# Altium integrated library Microchip Motor Driver.IntLib: 8 symbols
Pins are listed as number, name and electrical type; pins without a type are passive.

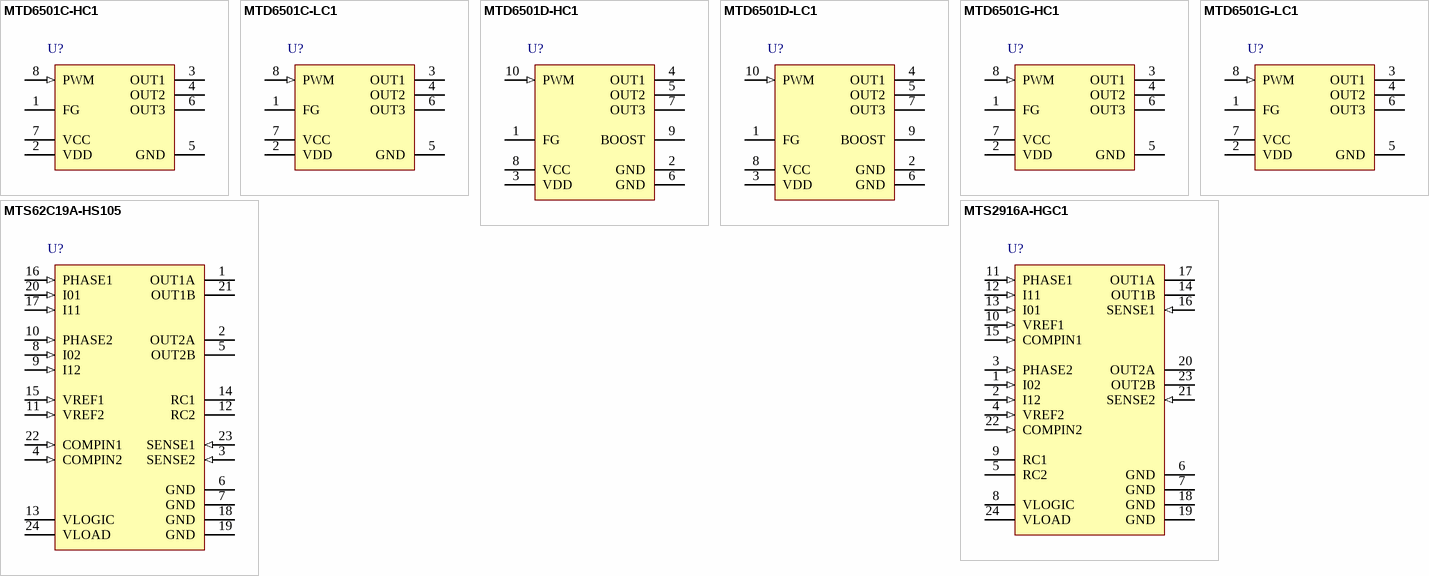
[diagram p0: symbols MTD6501C-HC1 to MTS2916A-HGC1]

## MTD6501C-HC1
designator U?
3-Phase Brushless DC Sinusoidal Sensorless Fan Motor Driver, MOSFET Output, 2 to 14 V, 8-pin SOP (SE8), Tube; Manufacturer: Microchip; PartNumber: MTD6501C-HC1; DatasheetVersion: Rev. B; PackageVersion: C04-121A; PackageReference: SOP-SE8; PackageDescription: 8-Lead Thermally Enhanced Plastic Small Outline, 4.9 x 3.9 mm Body, 1.27 mm Pitch; Supplier 1: Digi-Key; Supplier Part Number 1: MTD6501C-HC1-ND; Supplier 2: Newark; Supplier Part Number 2: 13T4434; Supplier 3: Mouser; Supplier Part Number 3: 579-MTD6501C-HC1; Mounting Technology: Surface Mount; ComponentLink1Description: Manufacturer URL; ComponentLink1URL: http://www.microchip.com; ComponentLink2Description: Datasheet; ComponentLink2URL: http://ww1.microchip.com/downloads/en/DeviceDoc/22263B.pdf; ComponentLink3Description: Package Specification; ComponentLink3URL: http://www.microchip.com/stellent/groups/techpub_sg/documents/packagingspec/en012702.pdf; ComponentLink4Description: Product URL; ComponentLink4URL: http://www.microchip.com/MTD6501C
footprint MCHP-SOP-SE8_N (SOP, 8-Leads, Body 4.9x3.9mm, Pitch 1.27mm, Thermal Pad 2.29x2.29mm, IPC Medium Density)
footprint MCHP-SOP-SE8_L (SOP, 8-Leads, Body 4.9x3.9mm, Pitch 1.27mm, Thermal Pad 2.29x2.29mm, IPC High Density)
footprint MCHP-SOP-SE8_M (SOP, 8-Leads, Body 4.9x3.9mm, Pitch 1.27mm, Thermal Pad 2.29x2.29mm, IPC Low Density)
pins: 1 FG (hiz) "Motor speed indication output", 2 VDD (power) "Internal regulator output (for decoupling only)", 3 OUT1 (hiz) "Single-phase coil output pin", 4 OUT2 (hiz) "Single-phase coil output pin", 5 GND (power) "Negative voltage supply (ground)", 6 OUT3 (hiz) "Single-phase coil output pin", 7 VCC (power) "Positive voltage supply for motor driver", 8 PWM (in) "PWM input signal for speed control"

## MTD6501C-LC1
designator U?
3-Phase Brushless DC Sinusoidal Sensorless Fan Motor Driver, MOSFET Output, 2 to 14 V, 8-pin SOP (SE8), Tape and Reel; Manufacturer: Microchip; PartNumber: MTD6501C-LC1; DatasheetVersion: Rev. B; PackageVersion: C04-121A; PackageReference: SOP-SE8; PackageDescription: 8-Lead Thermally Enhanced Plastic Small Outline, 4.9 x 3.9 mm Body, 1.27 mm Pitch; Supplier 1: Digi-Key; Supplier Part Number 1: MTD6501C-LC1-ND; Supplier 2: Newark; Supplier Part Number 2: 13T4435; Supplier 3: Mouser; Supplier Part Number 3: 579-MTD6501C-LC1; Mounting Technology: Surface Mount; ComponentLink1Description: Manufacturer URL; ComponentLink1URL: http://www.microchip.com; ComponentLink2Description: Datasheet; ComponentLink2URL: http://ww1.microchip.com/downloads/en/DeviceDoc/22263B.pdf; ComponentLink3Description: Package Specification; ComponentLink3URL: http://www.microchip.com/stellent/groups/techpub_sg/documents/packagingspec/en012702.pdf; ComponentLink4Description: Product URL; ComponentLink4URL: http://www.microchip.com/MTD6501C
footprint MCHP-SOP-SE8_N (SOP, 8-Leads, Body 4.9x3.9mm, Pitch 1.27mm, Thermal Pad 2.29x2.29mm, IPC Medium Density)
footprint MCHP-SOP-SE8_L (SOP, 8-Leads, Body 4.9x3.9mm, Pitch 1.27mm, Thermal Pad 2.29x2.29mm, IPC High Density)
footprint MCHP-SOP-SE8_M (SOP, 8-Leads, Body 4.9x3.9mm, Pitch 1.27mm, Thermal Pad 2.29x2.29mm, IPC Low Density)
pins: 1 FG (hiz) "Motor speed indication output", 2 VDD (power) "Internal regulator output (for decoupling only)", 3 OUT1 (hiz) "Single-phase coil output pin", 4 OUT2 (hiz) "Single-phase coil output pin", 5 GND (power) "Negative voltage supply (ground)", 6 OUT3 (hiz) "Single-phase coil output pin", 7 VCC (power) "Positive voltage supply for motor driver", 8 PWM (in) "PWM input signal for speed control"

## MTD6501D-HC1
designator U?
3-Phase Brushless DC Sinusoidal Sensorless Fan Motor Driver, MOSFET Output, 2 to 14 V, 10-pin MSOP (MS10), Tube; Manufacturer: Microchip; PartNumber: MTD6501D-HC1; DatasheetVersion: Rev. B; PackageVersion: C04-021C; PackageReference: MSOP-MS10; PackageDescription: 10-Lead Plastic Micro Small Outline Package, 3 x 3 mm Body, 0.5 mm Pitch; Supplier 1: Digi-Key; Supplier Part Number 1: MTD6501D-HC1-ND; Supplier 2: Newark; Supplier Part Number 2: 13T4436; Supplier 3: Mouser; Supplier Part Number 3: 579-MTD6501D-HC1; Mounting Technology: Surface Mount; ComponentLink1Description: Manufacturer URL; ComponentLink1URL: http://www.microchip.com; ComponentLink2Description: Datasheet; ComponentLink2URL: http://ww1.microchip.com/downloads/en/DeviceDoc/22263B.pdf; ComponentLink3Description: Package Specification; ComponentLink3URL: http://www.microchip.com/stellent/groups/techpub_sg/documents/packagingspec/en012702.pdf; ComponentLink4Description: Product URL; ComponentLink4URL: http://www.microchip.com/MTD6501D
footprint MCHP-MSOP-MS10_N (SOP, 10-Leads, Body 3x3mm, Pitch 0.5mm, IPC Medium Density)
footprint MCHP-MSOP-MS10_L (SOP, 10-Leads, Body 3x3mm, Pitch 0.5mm, IPC High Density)
footprint MCHP-MSOP-MS10_M (SOP, 10-Leads, Body 3x3mm, Pitch 0.5mm, IPC Low Density)
pins: 1 FG (hiz) "Motor speed indication output", 2 GND (power) "Negative voltage supply (ground)", 3 VDD (power) "Internal regulator output (for decoupling only)", 4 OUT1 (hiz) "Single-phase coil output pin", 5 OUT2 (hiz) "Single-phase coil output pin", 6 GND (power) "Negative voltage supply (ground)", 7 OUT3 (hiz) "Single-phase coil output pin", 8 VCC (power) "Positive voltage supply for motor driver", 9 BOOST "Boost mode selection: Pin floating for Normal mode; Pin tied to GND for Boost mode", 10 PWM (in) "PWM input signal for speed control"

## MTD6501D-LC1
designator U?
3-Phase Brushless DC Sinusoidal Sensorless Fan Motor Driver, MOSFET Output, 2 to 14 V, 10-pin MSOP (MS10), Tape and Reel; Manufacturer: Microchip; PartNumber: MTD6501D-LC1; DatasheetVersion: Rev. B; PackageVersion: C04-021C; PackageReference: MSOP-MS10; PackageDescription: 10-Lead Plastic Micro Small Outline Package, 3 x 3 mm Body, 0.5 mm Pitch; Supplier 1: Digi-Key; Supplier Part Number 1: MTD6501D-LC1-ND; Supplier 2: Newark; Supplier Part Number 2: 13T4437; Supplier 3: Mouser; Supplier Part Number 3: 579-MTD6501D-LC1; Mounting Technology: Surface Mount; ComponentLink1Description: Manufacturer URL; ComponentLink1URL: http://www.microchip.com; ComponentLink2Description: Datasheet; ComponentLink2URL: http://ww1.microchip.com/downloads/en/DeviceDoc/22263B.pdf; ComponentLink3Description: Package Specification; ComponentLink3URL: http://www.microchip.com/stellent/groups/techpub_sg/documents/packagingspec/en012702.pdf; ComponentLink4Description: Product URL; ComponentLink4URL: http://www.microchip.com/MTD6501D
footprint MCHP-MSOP-MS10_N (SOP, 10-Leads, Body 3x3mm, Pitch 0.5mm, IPC Medium Density)
footprint MCHP-MSOP-MS10_L (SOP, 10-Leads, Body 3x3mm, Pitch 0.5mm, IPC High Density)
footprint MCHP-MSOP-MS10_M (SOP, 10-Leads, Body 3x3mm, Pitch 0.5mm, IPC Low Density)
pins: 1 FG (hiz) "Motor speed indication output", 2 GND (power) "Negative voltage supply (ground)", 3 VDD (power) "Internal regulator output (for decoupling only)", 4 OUT1 (hiz) "Single-phase coil output pin", 5 OUT2 (hiz) "Single-phase coil output pin", 6 GND (power) "Negative voltage supply (ground)", 7 OUT3 (hiz) "Single-phase coil output pin", 8 VCC (power) "Positive voltage supply for motor driver", 9 BOOST "Boost mode selection: Pin floating for Normal mode; Pin tied to GND for Boost mode", 10 PWM (in) "PWM input signal for speed control"

## MTD6501G-HC1
designator U?
3-Phase Brushless DC Sinusoidal Sensorless Fan Motor Driver, MOSFET Output, 2 to 14 V, 8-pin SOP (SE8), Tube; Manufacturer: Microchip; PartNumber: MTD6501G-HC1; DatasheetVersion: Rev. B; PackageVersion: C04-121A; PackageReference: SOP-SE8; PackageDescription: 8-Lead Thermally Enhanced Plastic Small Outline, 4.9 x 3.9 mm Body, 1.27 mm Pitch; Supplier 1: Digi-Key; Supplier Part Number 1: MTD6501G-HC1-ND; Supplier 2: Newark; Supplier Part Number 2: 90T8704; Supplier 3: Mouser; Supplier Part Number 3: 579-MTD6501G-HC1; Mounting Technology: Surface Mount; ComponentLink1Description: Manufacturer URL; ComponentLink1URL: http://www.microchip.com; ComponentLink2Description: Datasheet; ComponentLink2URL: http://ww1.microchip.com/downloads/en/DeviceDoc/22263B.pdf; ComponentLink3Description: Package Specification; ComponentLink3URL: http://www.microchip.com/stellent/groups/techpub_sg/documents/packagingspec/en012702.pdf; ComponentLink4Description: Product URL; ComponentLink4URL: http://www.microchip.com/MTD6501G
footprint MCHP-SOP-SE8_N (SOP, 8-Leads, Body 4.9x3.9mm, Pitch 1.27mm, Thermal Pad 2.29x2.29mm, IPC Medium Density)
footprint MCHP-SOP-SE8_L (SOP, 8-Leads, Body 4.9x3.9mm, Pitch 1.27mm, Thermal Pad 2.29x2.29mm, IPC High Density)
footprint MCHP-SOP-SE8_M (SOP, 8-Leads, Body 4.9x3.9mm, Pitch 1.27mm, Thermal Pad 2.29x2.29mm, IPC Low Density)
pins: 1 FG (hiz) "Motor speed indication output", 2 VDD (power) "Internal regulator output (for decoupling only)", 3 OUT1 (hiz) "Single-phase coil output pin", 4 OUT2 (hiz) "Single-phase coil output pin", 5 GND (power) "Negative voltage supply (ground)", 6 OUT3 (hiz) "Single-phase coil output pin", 7 VCC (power) "Positive voltage supply for motor driver", 8 PWM (in) "PWM input signal for speed control"

## MTD6501G-LC1
designator U?
3-Phase Brushless DC Sinusoidal Sensorless Fan Motor Driver, MOSFET Output, 2 to 14 V, 8-pin SOP (SE8), Tape and Reel; Manufacturer: Microchip; PartNumber: MTD6501G-LC1; DatasheetVersion: Rev. B; PackageVersion: C04-121A; PackageReference: SOP-SE8; PackageDescription: 8-Lead Thermally Enhanced Plastic Small Outline, 4.9 x 3.9 mm Body, 1.27 mm Pitch; Supplier 1: Digi-Key; Supplier Part Number 1: MTD6501G-LC1-ND; Supplier 2: Newark; Supplier Part Number 2: 90T8705; Supplier 3: Mouser; Supplier Part Number 3: 579-MTD6501G-LC1; Mounting Technology: Surface Mount; ComponentLink1Description: Manufacturer URL; ComponentLink1URL: http://www.microchip.com; ComponentLink2Description: Datasheet; ComponentLink2URL: http://ww1.microchip.com/downloads/en/DeviceDoc/22263B.pdf; ComponentLink3Description: Package Specification; ComponentLink3URL: http://www.microchip.com/stellent/groups/techpub_sg/documents/packagingspec/en012702.pdf; ComponentLink4Description: Product URL; ComponentLink4URL: http://www.microchip.com/MTD6501G
footprint MCHP-SOP-SE8_N (SOP, 8-Leads, Body 4.9x3.9mm, Pitch 1.27mm, Thermal Pad 2.29x2.29mm, IPC Medium Density)
footprint MCHP-SOP-SE8_L (SOP, 8-Leads, Body 4.9x3.9mm, Pitch 1.27mm, Thermal Pad 2.29x2.29mm, IPC High Density)
footprint MCHP-SOP-SE8_M (SOP, 8-Leads, Body 4.9x3.9mm, Pitch 1.27mm, Thermal Pad 2.29x2.29mm, IPC Low Density)
pins: 1 FG (hiz) "Motor speed indication output", 2 VDD (power) "Internal regulator output (for decoupling only)", 3 OUT1 (hiz) "Single-phase coil output pin", 4 OUT2 (hiz) "Single-phase coil output pin", 5 GND (power) "Negative voltage supply (ground)", 6 OUT3 (hiz) "Single-phase coil output pin", 7 VCC (power) "Positive voltage supply for motor driver", 8 PWM (in) "PWM input signal for speed control"

## MTS62C19A-HS105
designator U?
Dual Full-Bridge Motor Driver, MOSFET Output, 10 to 40 V, 24-pin SOP (S24), Tube; Manufacturer: Microchip; PartNumber: MTS62C19A-HS105; DatasheetVersion: Rev. B; PackageVersion: Rev. B; PackageReference: SOP-S24; PackageDescription: 24-Lead Small Outline Package, 15.7 x 7.5 mm Body, 0.5 mm Pitch; Supplier 1: Digi-Key; Supplier Part Number 1: MTS62C19A-HS105-ND; Supplier 2: Digi-Key; Supplier Part Number 2: MTS62C19A-HS105TR-ND; Supplier 3: Digi-Key; Supplier Part Number 3: MTS62C19A-HS105DKR-ND; Supplier 4: Farnell; Supplier Part Number 4: 2009303; Supplier 5: Newark; Supplier Part Number 5: 13T4440; Supplier 6: Mouser; Supplier Part Number 6: 579-MTS62C19A-HS105; Mounting Technology: Surface Mount; Code_JEDEC: MO-119; ComponentLink1Description: Manufacturer URL; ComponentLink1URL: http://www.microchip.com; ComponentLink2Description: Datasheet; ComponentLink2URL: http://ww1.microchip.com/downloads/en/DeviceDoc/22260B.pdf; ComponentLink3Description: Package Specification; ComponentLink3URL: http://ww1.microchip.com/downloads/en/DeviceDoc/22259B.pdf; ComponentLink4Description: Product URL; ComponentLink4URL: http://www.microchip.com/MTS62C19A
footprint MCHP-SOP-S24_N (SOP, 24-Leads, Body 15.698x7.506mm, Pitch 0.5mm, IPC Medium Density)
footprint MCHP-SOP-S24_L (SOP, 24-Leads, Body 15.698x7.506mm, Pitch 0.5mm, IPC High Density)
footprint MCHP-SOP-S24_M (SOP, 24-Leads, Body 15.698x7.506mm, Pitch 0.5mm, IPC Low Density)
pins: 1 OUT1A (power) "Output 1 A Side of Motor Winding", 2 OUT2A (power) "Output 2 A Side of Motor Winding", 3 SENSE2 (in) "Current Sense for Output 2", 4 COMPIN2 (in) "Current Sense Comparator Input for Output 2", 5 OUT2B (power) "Output 2 B Side of Motor Winding", 6 GND (power) "Negative Logic Supply (Ground)", 7 GND (power) "Negative Logic Supply (Ground)", 8 I02 (in) "Output 2 Current Selection Bit 0", 9 I12 (in) "Output 2 Current Selection Bit 1", 10 PHASE2 (in) "Output 2 Phase", 11 VREF2 (in) "Output 2 Current Reference", 12 RC2 "Output 2 RC Time Constant", 13 VLOGIC (power) "Positive Logic Supply Voltage", 14 RC1 "Output 1 RC Time Constant", 15 VREF1 (in) "Output 1 Current Reference", 16 PHASE1 (in) "Output 1 Phase", 17 I11 (in) "Output 1 Current Selection Bit 1", 18 GND (power) "Negative Logic Supply (Ground)", 19 GND (power) "Negative Logic Supply (Ground)", 20 I01 (in) "Output 1 Current Selection Bit 0", 21 OUT1B (power) "Output 1 B Side of Motor Winding", 22 COMPIN1 (in) "Current Sense Comparator Input for Output 1", 23 SENSE1 (in) "Current Sense for Output 1", 24 VLOAD (power) "Positive Load Supply Voltage"

## MTS2916A-HGC1
designator U?
Dual Full-Bridge Motor Driver, MOSFET Output, 10 to 40 V, 24-pin SOP (S24), Tube; Manufacturer: Microchip; PartNumber: MTS2916A-HGC1; DatasheetVersion: Rev. B; PackageVersion: Rev. B; PackageReference: SOP-S24; PackageDescription: 24-Lead Small Outline Package, 15.7 x 7.5 mm Body, 0.5 mm Pitch; Supplier 1: Digi-Key; Supplier Part Number 1: MTS2916A-HGC1-ND; Supplier 2: Digi-Key; Supplier Part Number 2: MTS2916A-HGC1TR-ND; Supplier 3: Digi-Key; Supplier Part Number 3: MTS2916A-HGC1DKR-ND; Supplier 4: Farnell; Supplier Part Number 4: 2009302; Supplier 5: Newark; Supplier Part Number 5: 13T4438; Supplier 6: Mouser; Supplier Part Number 6: 579-MTS2916A-HGC1; Mounting Technology: Surface Mount; Code_JEDEC: MO-119; ComponentLink1Description: Manufacturer URL; ComponentLink1URL: http://www.microchip.com; ComponentLink2Description: Datasheet; ComponentLink2URL: http://ww1.microchip.com/downloads/en/DeviceDoc/22259B.pdf; ComponentLink3Description: Package Specification; ComponentLink3URL: http://ww1.microchip.com/downloads/en/DeviceDoc/22259B.pdf; ComponentLink4Description: Product URL; ComponentLink4URL: http://www.microchip.com/MTS2916A
footprint MCHP-SOP-S24_N (SOP, 24-Leads, Body 15.698x7.506mm, Pitch 0.5mm, IPC Medium Density)
footprint MCHP-SOP-S24_L (SOP, 24-Leads, Body 15.698x7.506mm, Pitch 0.5mm, IPC High Density)
footprint MCHP-SOP-S24_M (SOP, 24-Leads, Body 15.698x7.506mm, Pitch 0.5mm, IPC Low Density)
pins: 1 I02 (in) "Output 2 Current Selection Bit 0", 2 I12 (in) "Output 2 Current Selection Bit 1", 3 PHASE2 (in) "Output 2 Phase", 4 VREF2 (in) "Output 2 Current Reference", 5 RC2 "Output 2 RC Time Constant", 6 GND (power) "Negative Logic Supply (Ground)", 7 GND (power) "Negative Logic Supply (Ground)", 8 VLOGIC (power) "Positive Logic Supply Voltage", 9 RC1 "Output 1 RC Time Constant", 10 VREF1 (in) "Output 1 Current Reference", 11 PHASE1 (in) "Output 1 Phase", 12 I11 (in) "Output 1 Current Selection Bit 1", 13 I01 (in) "Output 1 Current Selection Bit 0", 14 OUT1B (power) "Output 1 B Side of Motor Winding", 15 COMPIN1 (in) "Current Sense Comparator Input for Output 1", 16 SENSE1 (in) "Current Sense for Output 1", 17 OUT1A (power) "Output 1 A Side of Motor Winding", 18 GND (power) "Negative Logic Supply (Ground)", 19 GND (power) "Negative Logic Supply (Ground)", 20 OUT2A (power) "Output 2 A Side of Motor Winding", 21 SENSE2 (in) "Current Sense for Output 2", 22 COMPIN2 (in) "Current Sense Comparator Input for Output 2", 23 OUT2B (power) "Output 2 B Side of Motor Winding", 24 VLOAD (power) "Positive Load Supply Voltage"